# EAGLE library part CP2102N-A01-GQFN24 (library tilesPartComp)
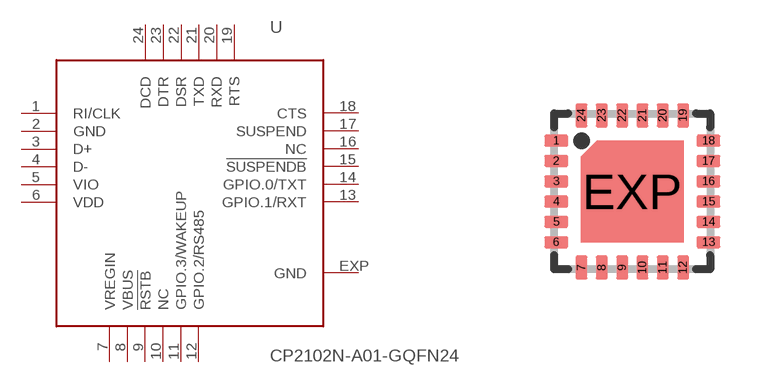
[diagram p1: symbol with the pads of QFN-24; footprint QFN-24]

Designator prefix -

## CP2102N-A01-GQFN24  [QFN-24]
1  RI/CLK  in
2  GND  sup
3  D+
4  D-
5  VIO  pwr
6  VDD  pwr
7  VREGIN  pas
8  VBUS  in
9  !RSTB
10  NC  nc
11  GPIO.3/WAKEUP  out
12  GPIO.2/RS485  out
13  GPIO.1/RXT  in
14  GPIO.0/TXT  out
15  !SUSPENDB  out
16  NC  nc
17  SUSPEND  out
18  CTS  in
19  RTS  out
20  RXD  out
21  TXD  out
22  DSR  in
23  DTR  out
24  DCD  in
EXP  GND  sup

## Footprint QFN-24 (pad centres in mm)
QFN-24 Based on specification for CP2102N-A01-GQFN24
smd 0.6 x 0.3: 1 -1.905,1.27; 2 -1.905,0.762; 3 -1.905,0.254; 4 -1.905,-0.254; 5 -1.905,-0.762; 6 -1.905,-1.27; 13 1.905,-1.27; 14 1.905,-0.762; 15 1.905,-0.254; 16 1.905,0.254; 17 1.905,0.762; 18 1.905,1.27
smd 0.3 x 0.6: 7 -1.27,-1.905; 8 -0.762,-1.905; 9 -0.254,-1.905; 10 0.254,-1.905; 11 0.762,-1.905; 12 1.27,-1.905; 19 1.27,1.905; 20 0.762,1.905; 21 0.254,1.905; 22 -0.254,1.905; 23 -0.762,1.905; 24 -1.27,1.905
smd 2 x 2: EXP 0,0